# Altium schematic symbol library PIC18F57Q84-I_PT.SchLib: 1 symbol
Pins are listed as number, name and electrical type; pins without a type are passive.

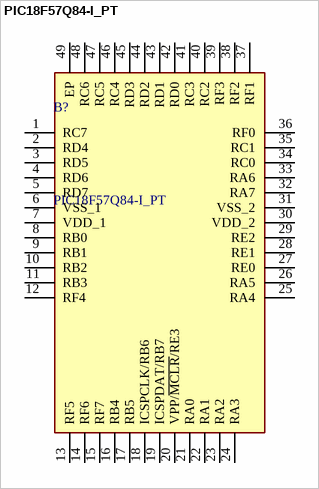
[diagram p0: symbol PIC18F57Q84-I_PT]

## PIC18F57Q84-I_PT
designator B?
8-bit Microcontrollers - MCU; Manufacturer_Name: Microchip; Manufacturer_Part_Number: PIC18F57Q84-I/PT; Geometry.Height: 1.2mm; Mouser Part Number: 579-PIC18F57Q84-I/PT; Mouser Price/Stock: https://www.mouser.co.uk/ProductDetail/Microchip-Technology/PIC18F57Q84-I-PT?qs=7MVldsJ5UayIDNqU9mUkng%3D%3D; Datasheet Link: https://ww1.microchip.com/downloads/en/DeviceDoc/PIC18F27-47-57Q84-Data-Sheet-DS40002213C.pdf
footprint QFP50P900X900X120-49N
pins: 1 RC7, 2 RD4, 3 RD5, 4 RD6, 5 RD7, 6 VSS_1, 7 VDD_1, 8 RB0, 9 RB1, 10 RB2, 11 RB3, 12 RF4, 13 RF5, 14 RF6, 15 RF7, 16 RB4, 17 RB5, 18 ICSPCLK/RB6, 19 ICSPDAT/RB7, 20 VPP/~{MCLR}/RE3, 21 RA0, 22 RA1, 23 RA2, 24 RA3, 25 RA4, 26 RA5, 27 RE0, 28 RE1, 29 RE2, 30 VDD_2, 31 VSS_2, 32 RA7, 33 RA6, 34 RC0, 35 RC1, 36 RF0, 37 RF1, 38 RF2, 39 RF3, 40 RC2, 41 RC3, 42 RD0, 43 RD1, 44 RD2, 45 RD3, 46 RC4, 47 RC5, 48 RC6, 49 EP